# Altium schematic symbol library pwr_reg_linear_highInput.SchLib: 26 symbols
Pins are listed as number, name and electrical type; pins without a type are passive.

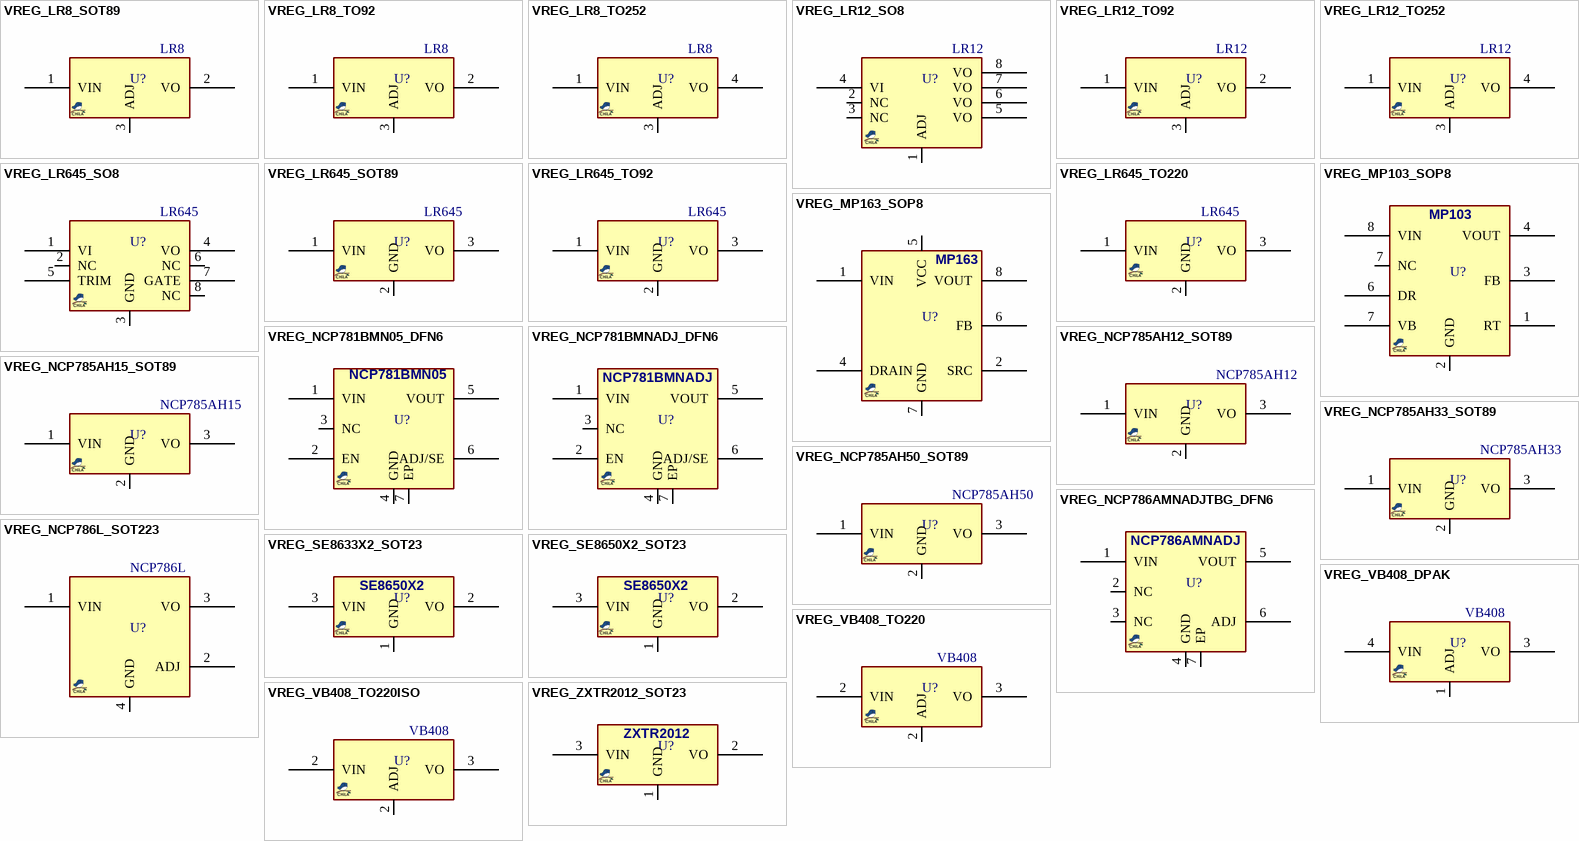
[diagram p0: symbols VREG_LR8_SOT89 to VREG_ZXTR2012_SOT23]

## VREG_LR8_SOT89
designator U?, comment LR8
REG, Linear, ADJ, High Voltage, 30 mA, SOT-89; MANF_P#: LR8N8-G; MANF: Microchip; PARAM: 30mA; PARAM2: 13.2~450Vin, 1.2~438Vout Adj; PRICE: 0.6$; VALUE: LR8
footprint SOT89_3 (SOT89, SOT-89, SBF-4089, SOT89A, GALI, SC-62, DF782, TO-243AA(JEDEC), 1.5mm pitch)
pins: 1 VIN, 2 VO, 3 ADJ

## VREG_LR8_TO92
designator U?, comment LR8
REG, Linear, ADJ, High Voltage, 30 mA, SOT-89; MANF_P#: LR8N3-G; MANF: microchip; PARAM: 30mA; PARAM2: 13.2~450Vin, 1.2~438Vout Adj; PRICE: 0.6$; VALUE: LR8
footprint TO92_3 (TO-92)
pins: 1 VIN, 2 VO, 3 ADJ

## VREG_LR8_TO252
designator U?, comment LR8
REG, Linear, ADJ, High Voltage, 30 mA, SOT-89; MANF_P#: LR8K4-G; MANF: microchip; PARAM: 30mA; PARAM2: 13.2~450Vin, 1.2~438Vout Adj; PRICE: 0.6$; VALUE: LR8
footprint DPAK_3 (D-PAK (TO-252), 3-Pads, Body 6.2x6.7mm)
pins: 1 VIN, 3 ADJ, 4 VO

## VREG_LR12_SO8
designator U?, comment LR12
REG, Linear, ADJ, High Voltage,0.1A, SOP8; MANF_P#: LR12LG-G; MANF: Supertex; PARAM: 0.1A, -40~125°C; PARAM2: 13.2~100Vin, 1.2~88Vout; PRICE: 1.2$; VALUE: LR12
footprint SO_8 (SOP-8, 5x3.9mm body 1.27mm pitch, SOT96-1, M08A, S8, SOIC8, VO8, MS-012AA(JEDEC), R-8, 8S2, VOG8)
pins: 1 ADJ, 2 NC, 3 NC, 4 VI, 5 VO, 6 VO, 7 VO, 8 VO

## VREG_LR12_TO92
designator U?, comment LR12
REG, Linear, ADJ, High Voltage,0.1A, SOT-89; MANF_P#: LR12N3-G; MANF: Supertex; PARAM: 0.1A, -40~125°C; PARAM2: 13.2~100Vin, 1.2~88Vout; PRICE: 1.2$; VALUE: LR12
footprint TO92_3 (TO-92)
pins: 1 VIN, 2 VO, 3 ADJ

## VREG_LR12_TO252
designator U?, comment LR12
REG, Linear, Fixed, High Voltage, 0.1A, SOT-89; MANF_P#: LR12K4-G; MANF: Supertex; PARAM: 0.1A, -40~125°C; PARAM2: 13.2~100Vin, 1.2~88Vout; PRICE: 1.2$; VALUE: LR12
footprint DPAK_3 (D-PAK (TO-252), 3-Pads, Body 6.2x6.7mm)
pins: 1 VIN, 3 ADJ, 4 VO

## VREG_LR645_SO8
designator U?, comment LR645
REG, Linear, Fixed, High Voltage, SOP-8; MANF_P#: LR645LG-G; MANF: Supertex; PARAM: 3mA, -55~150oC; PARAM2: 15~450Vin, 8~12Vout; PRICE: 0.5$; VALUE: LR645
footprint SO_8 (SOP-8, 5x3.9mm body 1.27mm pitch, SOT96-1, M08A, S8, SOIC8, VO8, MS-012AA(JEDEC), R-8, 8S2, VOG8)
pins: 1 VI, 2 NC, 3 GND, 4 VO, 5 TRIM, 6 NC, 7 GATE, 8 NC

## VREG_LR645_SOT89
designator U?, comment LR645
REG, Linear, Fixed, High Voltage, 0.4A, SOT-89; MANF_P#: LR645N8-G; MANF: Supertex; PARAM: 3mA, -55~150oC; PARAM2: 15~450Vin, 8~12Vout; PRICE: 0.5$; VALUE: LR645
footprint SOT89_3 (SOT89, SOT-89, SBF-4089, SOT89A, GALI, SC-62, DF782, TO-243AA(JEDEC))
pins: 1 VIN, 2 GND, 3 VO

## VREG_LR645_TO92
designator U?, comment LR645
REG, Linear, ADJ, High Voltage, 30 mA, SOT-89; MANF_P#: LR645N3-G; MANF: Supertex; PARAM: 3mA, -55~150oC; PARAM2: 15~450Vin, 8~12Vout; PRICE: 0.5$; VALUE: LR645
footprint TO92_3 (TO-92)
pins: 1 VIN, 2 GND, 3 VO

## VREG_LR645_TO220
designator U?, comment LR645
REG, Linear, Fixed, 6v, 1.5A, TO220; MANF_P#: LR645N5-G; MANF: Supertex; PARAM: 3mA, -55~150oC; PARAM2: 15~450Vin, 8~12Vout; PRICE: 0.5$; VALUE: LR645
footprint TO220_3 (TO-220 3 LEAD, TO-262, pitch: 2.54mm  10x4.5mm)
pins: 1 VIN, 2 GND, 3 VO

## VREG_MP103_SOP8
designator U?, comment MP103  (value not drawn)
REG, Linear, Fixed, 85~305Vin, 50mA; MANF_P#: MP103GN; MANF: MPS; PARAM: 50mA, 60dB PSRR, -40~150°C; PARAM2: 85~305Vin, Vout Adj; PRICE: 1.5$; VALUE: MP103
footprint SO_8 (SOP-8, 5x3.9mm body 1.27mm pitch, SOT96-1, M08A, S8, SOIC8, VO8, MS-012AA(JEDEC), R-8, 8S2, VOG8)
pins: 1 RT, 2 GND, 3 FB, 4 VOUT, 6 DR, 7 NC, 7 VB, 8 VIN

## VREG_MP163_SOP8
designator U?, comment MP163  (value not drawn)
REG, Linear+SW, 700Vin, 250mA; MANF_P#: MP163CGS-5; MANF: MPS; PARAM: 250mA, -40~150°C; PARAM2: 85~265Vin, Vout 5v and Adj; PRICE: 1.5$; VALUE: MP163
footprint SO_7_N3 (SOP-8 without pin3, 5x3.9mm body 1.27mm pitch, SOT33-5)
pins: 1 VIN, 2 SRC, 4 DRAIN, 5 VCC, 6 FB, 7 GND, 8 VOUT

## VREG_NCP781BMN05_DFN6
designator U?, comment NCP781BMN05  (value not drawn)
REG, Linear, Fixed, 6~150v, 100mA; MANF_P#: NCP781BMN050TAG; MANF: ON; PARAM: 100mA, 83dB PSRR, -40~85°C; PARAM2: 6~150Vin, 5Vout Adj; PRICE: 0.5$; VALUE: NCP781BMN05
footprint SON65_6T_3333 (506DF, DFN6 3.3x3.3, 0.65P)
pins: 1 VIN, 2 EN, 3 NC, 4 GND, 5 VOUT, 6 ADJ/SE, 7 EP

## VREG_NCP781BMNADJ_DFN6
designator U?, comment NCP781BMNADJ  (value not drawn)
REG, Linear, Fixed, 6~150v, 100mA; MANF_P#: NCP781BMNADJTAG; MANF: ON; PARAM: 100mA, 83dB PSRR, -40~85°C; PARAM2: 6~150Vin, 5Vout Adj; PRICE: 0.5$; VALUE: NCP781BMNADJ
footprint SON65_6T_3333 (506DF, DFN6 3.3x3.3, 0.65P)
pins: 1 VIN, 2 EN, 3 NC, 4 GND, 5 VOUT, 6 ADJ/SE, 7 EP

## VREG_NCP785AH12_SOT89
designator U?, comment NCP785AH12
REG, Linear, Fixed, High Voltage, 10mA, SOT-89; MANF_P#: NCP785AH120T1G; MANF: ON; PARAM: 10mA, -40~85°C; PARAM2: 55~450Vin, 12Vo fixed; PRICE: 0.5$; VALUE: NCP785AH12
footprint SOT89_3 (SOT89, SOT-89, SBF-4089, SOT89A, GALI, SC-62, DF782, TO-243AA(JEDEC))
pins: 1 VIN, 2 GND, 3 VO

## VREG_NCP785AH15_SOT89
designator U?, comment NCP785AH15
REG, Linear, Fixed, High Voltage, 10mA, SOT-89; MANF_P#: NCP785AH150T1G; MANF: ON; PARAM: 10mA, -40~85°C; PARAM2: 60~450Vin, 15Vo fixed; PRICE: 0.5$; VALUE: NCP785AH15
footprint SOT89_3 (SOT89, SOT-89, SBF-4089, SOT89A, GALI, SC-62, DF782, TO-243AA(JEDEC))
pins: 1 VIN, 2 GND, 3 VO

## VREG_NCP785AH33_SOT89
designator U?, comment NCP785AH33
REG, Linear, Fixed, High Voltage, 10mA, SOT-89; MANF_P#: NCP785AH33T1G; MANF: ON; PARAM: 10mA, -40~85°C; PARAM2: 25~450Vin, 3.3Vo fixed; PRICE: 0.5$; VALUE: NCP785AH33
footprint SOT89_3 (SOT89, SOT-89, SBF-4089, SOT89A, GALI, SC-62, DF782, TO-243AA(JEDEC))
pins: 1 VIN, 2 GND, 3 VO

## VREG_NCP785AH50_SOT89
designator U?, comment NCP785AH50
REG, Linear, Fixed, High Voltage, 10mA, SOT-89; MANF_P#: NCP785AH50T1G; MANF: ON; PARAM: 10mA, -40~85°C; PARAM2: 50~450Vin, 5.0Vo fixed; PRICE: 0.5$; VALUE: NCP785AH50
footprint SOT89_3 (SOT89, SOT-89, SBF-4089, SOT89A, GALI, SC-62, DF782, TO-243AA(JEDEC))
pins: 1 VIN, 2 GND, 3 VO

## VREG_NCP786AMNADJTBG_DFN6
designator U?, comment NCP786AMNADJTBG  (value not drawn)
REG, Linear, Adj, 55~450v, 10mA; MANF: ON; PARAM: 10mA, 70dB PSRR, -40~85°C; PARAM2: 55~450Vin, Adj; MANF_P#: NCP786AMNADJTBG; PRICE: 1$; VALUE: NCP786AMNADJTBG
footprint SON127_6T_5060 (DFN6 5x6, 1.27mm pitch)
pins: 1 VIN, 2 NC, 3 NC, 4 GND, 5 VOUT, 6 ADJ, 7 EP
text: NCP786AMNADJ

## VREG_NCP786L_SOT223
designator U?, comment NCP786L
REG, Linear, Fixed, High Voltage, 5mA, SOT-223; MANF_P#: NCP786LSTADJT3G; MANF: ON; PARAM: HV, 5mA, 90dB PSRR, -40~85°C; PARAM2: 55~450Vin, 1.27~15 Adj; PRICE: 0.8$; VALUE: NCP786L
footprint SOT89_3 (SOT89, SOT-89, SBF-4089, SOT89A, GALI, SC-62, DF782, TO-243AA(JEDEC))
pins: 1 VIN, 2 ADJ, 3 VO, 4 GND

## VREG_SE8633X2_SOT23
designator U?, comment SE8633X2  (value not drawn)
REG, Linear, ADJ, High Voltage, 100mA, SOT-23; MANF_P#: SE8633X2-HF; MANF: Seaward; PARAM2: 2.8~60Vin, 3.3Vout fixed; PARAM: 100mA; PRICE: 0.6$; VALUE: SE8633X2
footprint SOT23_3 (SOT-23, Micro3, MO-178, TO-236AB, MO-193C, SuperSOT3, SC-59, 1.5x3mm, Pitch 1.9mm)
pins: 1 GND, 2 VO, 3 VIN
text: SE8650X2

## VREG_SE8650X2_SOT23
designator U?, comment SE8650X2  (value not drawn)
REG, Linear, ADJ, High Voltage, 100mA, SOT-23; MANF_P#: SE8650X2-HF; MANF: Seaward; PARAM2: 2.8~60Vin, 5Vout fixed; PARAM: 100mA; PRICE: 0.6$; VALUE: SE8650X2
footprint SOT23_3 (SOT-23, Micro3, MO-178, TO-236AB, MO-193C, SuperSOT3, SC-59, 1.5x3mm, Pitch 1.9mm)
pins: 1 GND, 2 VO, 3 VIN

## VREG_VB408_DPAK
designator U?, comment VB408
REG, Linear, ADJ, HV, 60mA, DPAK; MANF_P#: VB408B; MANF: ST; PARAM: HV, 60mA, -40~150°C; PARAM2: 30~400Vin, 1.2~30Vout Adj; VALUE: VB408
footprint TO220_3 (TO-220 3 LEAD, TO-262, pitch: 2.54mm  10x4.5mm)
pins: 1 ADJ, 3 VO, 4 VIN

## VREG_VB408_TO220
designator U?, comment VB408
REG, Linear, ADJ, HV, 60mA, TO220; MANF: ST; PARAM: HV, 60mA, -40~150°C; PARAM2: 30~400Vin, 1.2~30Vout Adj; MANF_P#: VB408; VALUE: VB408
footprint TO220_3 (TO-220 3 LEAD, TO-262, pitch: 2.54mm  10x4.5mm)
pins: 2 VIN, 2 ADJ, 3 VO

## VREG_VB408_TO220ISO
designator U?, comment VB408
REG, Linear, ADJ, HV, 60mA, ISOWATT220; MANF_P#: VB408FI; MANF: ST; PARAM: HV, 60mA, -40~150°C; PARAM2: 30~400Vin, 1.2~30Vout Adj; VALUE: VB408
footprint TO220_3 (TO-220 3 LEAD, TO-262, pitch: 2.54mm  10x4.5mm)
pins: 2 VIN, 2 ADJ, 3 VO

## VREG_ZXTR2012_SOT23
designator U?, comment ZXTR2012  (value not drawn)
REG, Linear, ADJ, High Voltage, 36mA, SOT-23; MANF_P#: ZXTR2012FF-7; MANF: Diodes; PARAM2: 15~100Vin, 12Vout fixed; PARAM: 36mA; PRICE: 0.2$; VALUE: ZXTR2012
footprint SOT23_3 (SOT-23, Micro3, MO-178, TO-236AB, MO-193C, SuperSOT3, SC-59, 1.5x3mm, Pitch 1.9mm)
pins: 1 GND, 2 VO, 3 VIN